# Altium schematic symbol library VariableResistor.SchLib: 1 symbol
Pins are listed as number, name and electrical type; pins without a type are passive.

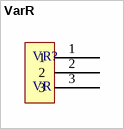
[diagram p0: symbol VarR]

## VarR
designator VR?, comment VR
footprint VarResistor
pins: 1, 2, 3